# Altium footprint library NAPaC_PCB1.PcbLib: 18 footprints (part 1 of 2)
Each footprint in its own frame and in the unit in brackets; x right, y up, seen from the top. Pads: shape width x height; smd on the part's side, far side on the other; paste and mask are expansions set on the pad; w line width, h text height; cw(c..) or ccw(c..) is an arc to the next point about the centre after c.
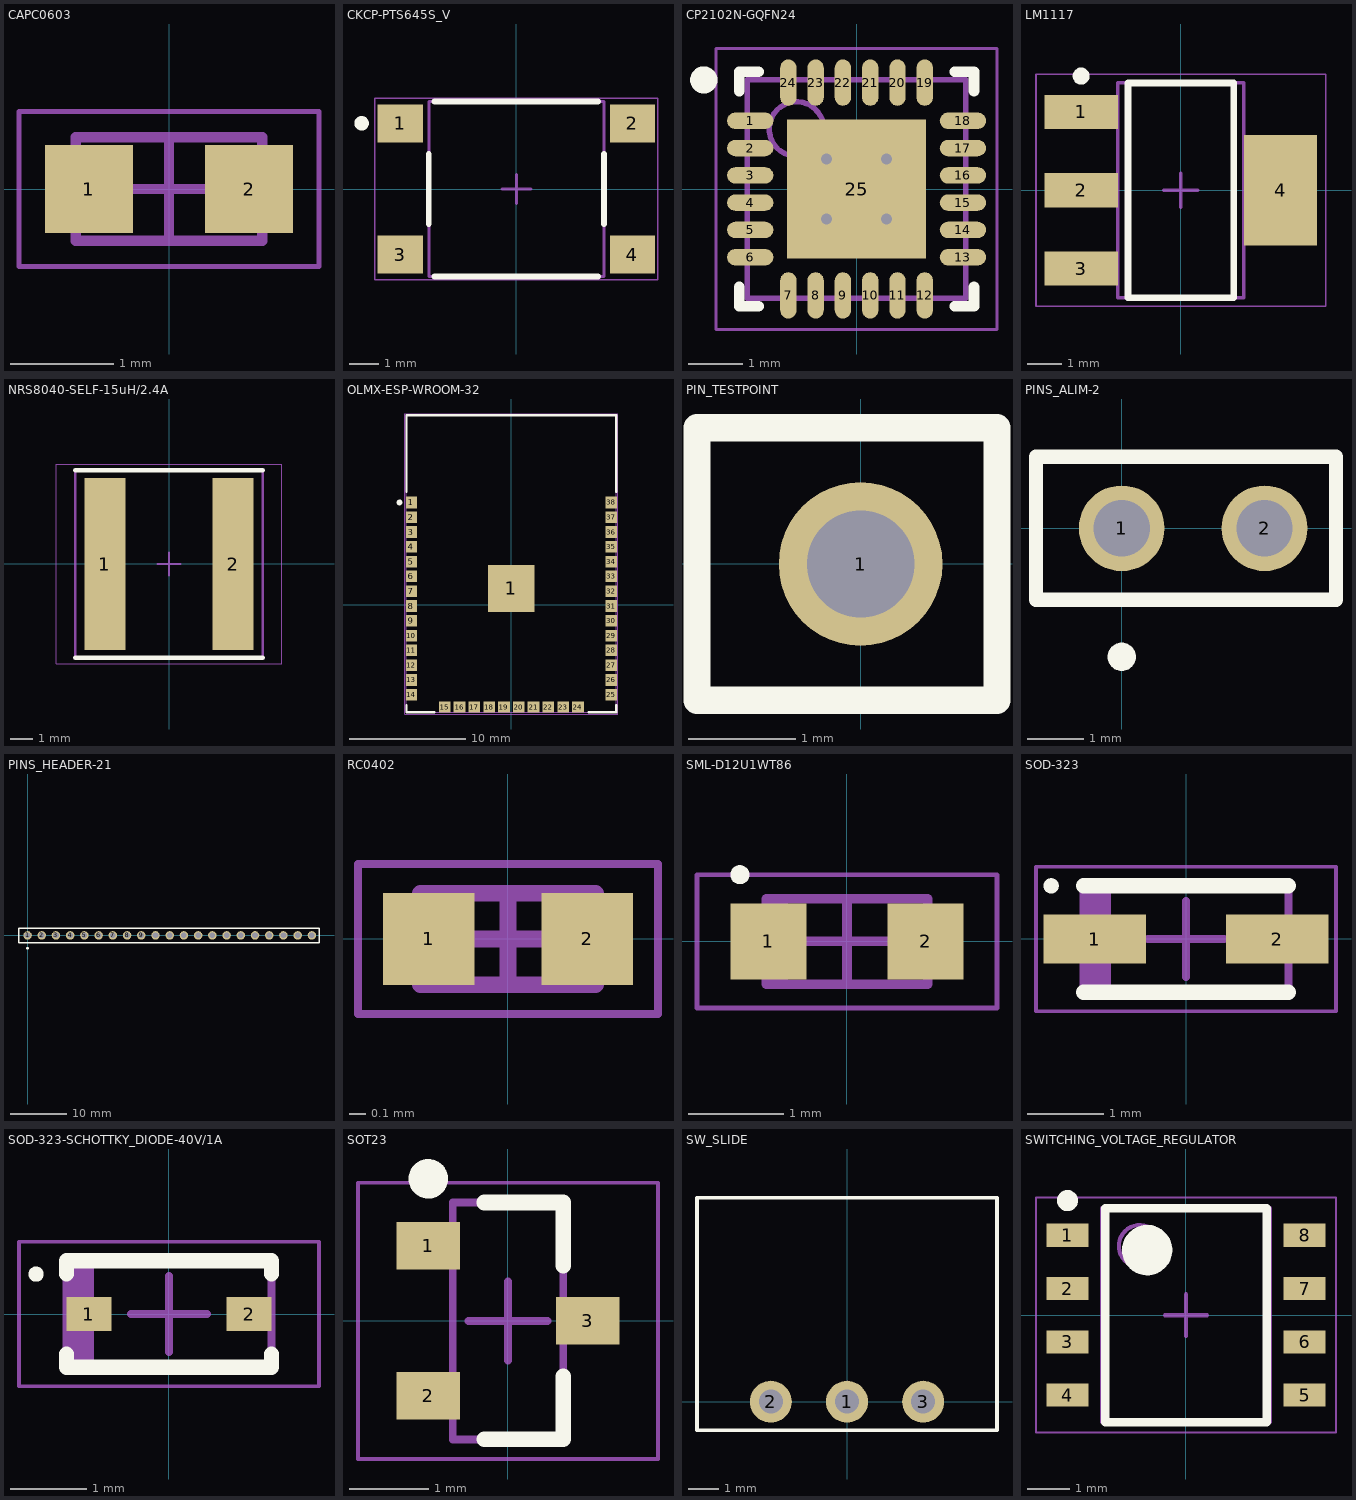
[diagram p0: the footprints below, top view; thin cyan lines are the x and y axes]

## CAPC0603 [mm]
pads (2):
  rect 0.85x0.85 smd: 1(-0.775,0) 2(0.775,0)
Mechanical 13:
  lines w0.1: -0.9,-0.5 0.9,-0.5 0.9,0.5 -0.9,0.5 -0.9,-0.5
Mechanical 15:
  lines w0.05: -1.45,-0.75 1.45,-0.75 1.45,0.75 -1.45,0.75 -1.45,-0.75
  lines w0.1: -0.5,0 0.5,0 ; 0,-0.5 0,0.5
3D body "CAPC0603.step": height 1, standoff 0, extent -0.9,-0.5 0.9,0.5

## CKCP-PTS645S_V [mm]
pads (4):
  rect 1.55x1.3 smd: 1(-3.975,2.25) 2(3.975,2.25) 3(-3.975,-2.25) 4(3.975,-2.25)
Top Overlay:
  circle w0.25: c-5.3,2.25 r0.125
  lines w0.2: -3,-1.2 -3,1.2 ; -2.8,-3 2.8,-3 ; -2.8,3 2.8,3 ; 3,-1.2 3,1.2
Mechanical 13:
  lines w0.1: -3,-3 3,-3 3,3 -3,3 -3,-3
Mechanical 15:
  lines w0.05: -4.85,-3.1 4.85,-3.1 4.85,3.1 -4.85,3.1 -4.85,-3.1
  lines w0.1: -0.5,0 0.5,0 ; 0,-0.5 0,0.5
3D body "User Library-PTS645SL43SMTR92-LFS.STEP": height 4.3, standoff 0, extent -4.5,-3 4.5,3

## CP2102N-GQFN24 [mm]
pads (25):
  oval 0.85x0.3 smd: 1(-1.95,1.25) 2(-1.95,0.75) 3(-1.95,0.25) 4(-1.95,-0.25) 5(-1.95,-0.75) 6(-1.95,-1.25) 13(1.95,-1.25) 14(1.95,-0.75) 15(1.95,-0.25) 16(1.95,0.25) 17(1.95,0.75) 18(1.95,1.25)
  oval 0.3x0.85 smd: 7(-1.25,-1.95) 8(-0.75,-1.95) 9(-0.25,-1.95) 10(0.25,-1.95) 11(0.75,-1.95) 12(1.25,-1.95) 19(1.25,1.95) 20(0.75,1.95) 21(0.25,1.95) 22(-0.25,1.95) 23(-0.75,1.95) 24(-1.25,1.95)
  rect 2.55x2.55 smd: 25(0,0)
via 0.55,-0.55 diameter 0.5 hole 0.2
via -0.55,-0.55 diameter 0.5 hole 0.2
via 0.55,0.55 diameter 0.5 hole 0.2
via -0.55,0.55 diameter 0.5 hole 0.2
Top Overlay:
  circle w0.25: c-2.8,2 r0.125
  lines w0.2: -2.15,-1.8 -2.15,-2.15 -1.8,-2.15 ; -2.15,1.8 -2.15,2.15 -1.8,2.15 ; 1.8,-2.15 2.15,-2.15 2.15,-1.8 ; 1.8,2.15 2.15,2.15 2.15,1.8
Mechanical 13:
  circle w0.1: c-1.1,1.1 r0.5
  lines w0.1: -2,-2 2,-2 2,2 -2,2 -2,-2
Mechanical 15:
  lines w0.05: -2.575,-2.575 2.575,-2.575 2.575,2.575 -2.575,2.575 -2.575,-2.575
  lines w0.1: -0.5,0 0.5,0 ; 0,-0.5 0,0.5
3D body "CP2102N-GQFN24.step": height 0.8, standoff 0, extent -2.01,-2.01 2.01,2.01

## LM1117 [mm]
pads (4):
  rect 2.15x1 smd: 1(-2.925,2.3) 2(-2.925,0) 3(-2.925,-2.3)
  rect 2.15x3.25 smd: 4(2.925,0)
Top Overlay:
  circle w0.25: c-2.925,3.35 r0.125
  lines w0.2: -1.55,-3.15 -1.55,3.15 1.55,3.15 1.55,-3.15 -1.55,-3.15
Mechanical 13:
  lines w0.1: -1.85,-3.15 -1.85,3.15 1.85,3.15 1.85,-3.15 -1.85,-3.15
Mechanical 15:
  lines w0.05: -4.25,-3.4 -4.25,3.4 4.25,3.4 4.25,-3.4 -4.25,-3.4
  lines w0.1: -0.5,0 0.5,0 ; 0,-0.5 0,0.5
3D body "SOT230P700X180-4N.step": height 1.8, standoff 0, extent -3.5,-3.15 3.5,3.15

## NRS8040-SELF-15uH/2.4A [mm]
pads (2):
  rect 1.8x7.5 smd: 1(-2.8,0) 2(2.8,0)
Top Overlay:
  lines w0.2: -4.1,-4.1 4.1,-4.1 ; -4.1,4.1 4.1,4.1
Mechanical 13:
  lines w0.1: -4.1,-4.1 -4.1,4.1 4.1,4.1 4.1,-4.1 -4.1,-4.1
Mechanical 15:
  lines w0.05: -4.925,-4.35 -4.925,4.35 4.925,4.35 4.925,-4.35 -4.925,-4.35
  lines w0.1: -0.5,0 0.5,0 ; 0,-0.5 0,0.5
3D body "NRS8040.step": height 4.1, standoff 0, extent -4.1,-4 4.1,4

## OLMX-ESP-WROOM-32 [mm]
pads (39):
  rect 0.95x1 smd: 1(-8.575,8.78) 2(-8.575,7.51) 3(-8.575,6.24) 4(-8.575,4.97) 5(-8.575,3.7) 6(-8.575,2.43) 7(-8.575,1.16) 8(-8.575,-0.11) 9(-8.575,-1.38) 10(-8.575,-2.65) 11(-8.575,-3.92) 12(-8.575,-5.19) 13(-8.575,-6.46) 14(-8.575,-7.73) 25(8.575,-7.73) 26(8.575,-6.46) 27(8.575,-5.19) 28(8.575,-3.92) 29(8.575,-2.65) 30(8.575,-1.38) 31(8.575,-0.11) 32(8.575,1.16) 33(8.575,2.43) 34(8.575,3.7) 35(8.575,4.97) 36(8.575,6.24) 37(8.575,7.51) 38(8.575,8.78)
  rect 4x4 smd: 1(0,1.395)
  rect 1x0.95 smd: 15(-5.715,-8.78) 16(-4.445,-8.78) 17(-3.175,-8.78) 18(-1.905,-8.78) 19(-0.635,-8.78) 20(0.635,-8.78) 21(1.905,-8.78) 22(3.175,-8.78) 23(4.445,-8.78) 24(5.715,-8.78)
Top Overlay:
  circle w0.25: c-9.6,8.78 r0.125
  lines w0.2: -9,-8.63 -9,-9.23 -6.615,-9.23 ; -9,9.68 -9,16.27 9,16.27 9,9.68 ; 6.615,-9.23 9,-9.23 9,-8.63
Mechanical 13:
  lines w0.1: -9,-9.23 9,-9.23 9,16.27 -9,16.27 -9,-9.23
Mechanical 15:
  lines w0.05: -9.15,-9.38 9.15,-9.38 9.15,16.37 -9.15,16.37 -9.15,-9.38
  lines w0.1: -0.5,0 0.5,0 ; 0,-0.5 0,0.5
3D body "User Library-esp-wroom-32.STEP": height 3.04, standoff 0, extent -9.035,-9.25 9.035,16.29

## PIN_TESTPOINT [mil]
pads (1):
  round 60 hole 39.37: 1(0,0)
Top Overlay:
  lines w10: -60,-50 50,-50 50,50 -60,50 -60,-50

## PINS_ALIM-2 [mil]
pads (3):
  round 60 hole 39.37: 1(0,0) 2(100,0)
  round 20 on Top Overlay: ""(0,-90)
Top Overlay:
  lines w10: -60,-50 -60,50 150,50 150,-50 -60,-50

## PINS_HEADER-21 [mil]
pads (22):
  round 60 hole 39.37: 1(0,0) 2(100,0) 3(200,0) 4(300,0) 5(400,0) 6(500,0) 7(600,0) 8(700,0) 9(800,0) 10(900,0) 11(1000,0) 12(1100,0) 13(1200,0) 14(1300,0) 15(1400,0) 16(1500,0) 17(1600,0) 18(1700,0) 19(1800,0) 20(1900,0) 21(2000,0)
  round 20 on Top Overlay: ""(0,-90)
Top Overlay:
  lines w10: -60,-50 -60,50 2050,50 2050,-50 -60,-50

## RC0402 [mm]
pads (2):
  rect 0.55x0.55 smd: 1(-0.475,0) 2(0.475,0)
Mechanical 13:
  lines w0.1: -0.525,-0.275 -0.525,0.275 0.525,0.275 0.525,-0.275 -0.525,-0.275
Mechanical 15:
  lines w0.05: -0.9,-0.45 -0.9,0.45 0.9,0.45 0.9,-0.45 -0.9,-0.45
  lines w0.1: -0.275,0 0.275,0 ; 0,-0.275 0,0.275
3D body "RESC1005X04N.step": height 0.4, standoff 0, extent -0.525,-0.275 0.525,0.275

## SML-D12U1WT86 [mm]
pads (2):
  rect 0.8x0.8 smd: 1(-0.825,0) 2(0.825,0)
Top Overlay:
  circle w0.1: c-1.125,0.7 r0.05
Mechanical 13:
  rectangle: -0.85,-0.45 -0.621,0.45
  lines w0.1: -0.85,-0.45 0.85,-0.45 0.85,0.45 -0.85,0.45 -0.85,-0.45
Mechanical 15:
  lines w0.05: -1.575,-0.7 1.575,-0.7 1.575,0.7 -1.575,0.7 -1.575,-0.7
  lines w0.1: -0.45,0 0.45,0 ; 0,-0.45 0,0.45
3D body "SML-D12U1WT86.step": height 0.65, standoff 0, extent -1.07,-0.45 1.07,0.45

## SOD-323 [mm]
pads (2):
  rect 1.35x0.65 smd: 1(-1.2,0) 2(1.2,0)
Top Overlay:
  circle w0.1: c-1.775,0.7 r0.05
  lines w0.2: -1.35,-0.7 1.35,-0.7 ; -1.35,0.7 1.35,0.7
Mechanical 13:
  rectangle: -1.35,-0.701 -0.987,0.699
  lines w0.1: -1.35,-0.7 1.35,-0.7 1.35,0.7 -1.35,0.7 -1.35,-0.7
Mechanical 15:
  lines w0.05: -1.975,-0.95 1.975,-0.95 1.975,0.95 -1.975,0.95 -1.975,-0.95
  lines w0.1: -0.5,0 0.5,0 ; 0,-0.5 0,0.5
3D body "SOD-323.step": height 1.1, standoff 0, extent -1.57,-0.7 1.57,0.7

## SOD-323-SCHOTTKY_DIODE-40V/1A [mm]
pads (2):
  rect 0.59x0.45 smd: 1(-1.055,0) 2(1.055,0)
Top Overlay:
  circle w0.1: c-1.75,0.525 r0.05
  lines w0.2: -1.35,-0.525 -1.35,-0.7 1.35,-0.7 1.35,-0.525 ; -1.35,0.525 -1.35,0.7 1.35,0.7 1.35,0.525
Mechanical 13:
  rectangle: -1.35,-0.7 -0.987,0.7
  lines w0.1: -1.35,-0.7 1.35,-0.7 1.35,0.7 -1.35,0.7 -1.35,-0.7
Mechanical 15:
  lines w0.05: -1.975,-0.95 1.975,-0.95 1.975,0.95 -1.975,0.95 -1.975,-0.95
  lines w0.1: -0.5,0 0.5,0 ; 0,-0.5 0,0.5
3D body "CAPM3216X18N.step": height 1.1, standoff 0, extent -1.57,-0.7 1.57,0.7

## SOT23 [mm]
pads (3):
  rect 0.8x0.6 smd: 1(-1.01,0.95) 2(-1.01,-0.95) 3(1.01,0)
Top Overlay:
  circle w0.25: c-1.01,1.8 r0.125
  lines w0.2: -0.3,-1.5 0.7,-1.5 0.7,-0.7 ; -0.3,1.5 0.7,1.5 0.7,0.7
Mechanical 13:
  lines w0.1: -0.7,-1.5 -0.7,1.5 0.7,1.5 0.7,-1.5 -0.7,-1.5
Mechanical 15:
  lines w0.05: -1.9,-1.75 -1.9,1.75 1.9,1.75 1.9,-1.75 -1.9,-1.75
  lines w0.1: -0.5,0 0.5,0 ; 0,-0.5 0,0.5
3D body "SOT23.step": height 1.1, standoff 0, extent -1.275,-1.5 1.275,1.5

## SW_SLIDE [mm]
pads (3):
  round 1.4 hole 0.8: 1(0,0) 2(-2.54,0) 3(2.54,0)
Top Overlay:
  lines w0.127: -5,6.8 5,6.8 ; -5,6.8 -5,-0.95 5,-0.95 5,6.8 ; -5,6.8 5,6.8
3D body "450302014072.stp": height 2.51, standoff -3.69, extent -5,-0.3 5,6.8

## SWITCHING_VOLTAGE_REGULATOR [mm]
pads (8):
  rect 1x0.55 smd: 1(-2.825,1.905) 2(-2.825,0.635) 3(-2.825,-0.635) 4(-2.825,-1.905) 5(2.825,-1.905) 6(2.825,-0.635) 7(2.825,0.635) 8(2.825,1.905)
Top Overlay:
  circle w0.6: c-0.925,1.55 r0.3
  circle w0.25: c-2.825,2.73 r0.125
  lines w0.2: -1.925,-2.55 1.925,-2.55 1.925,2.55 -1.925,2.55 -1.925,-2.55
Mechanical 13:
  circle w0.1: c-1.1,1.65 r0.5
  lines w0.1: -2,-2.55 2,-2.55 2,2.55 -2,2.55 -2,-2.55
Mechanical 15:
  lines w0.05: -3.575,-2.8 3.575,-2.8 3.575,2.8 -3.575,2.8 -3.575,-2.8
  lines w0.1: -0.5,0 0.5,0 ; 0,-0.5 0,0.5
3D body "SOP127P600-8N.step": height 1.75, standoff 0, extent -3.025,-2.55 3.025,2.55